# Altium schematic symbol library NPN_B1E2C3.Schlib: 1 symbol
Pins are listed as number, name and electrical type; pins without a type are passive.

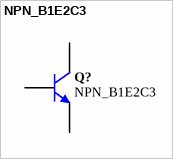
[diagram p0: symbol NPN_B1E2C3]

## NPN_B1E2C3
designator Q?
BC817K-25, 500mW NPN SOT-23 45V 500mA
pins: 1 B, 2 E, 3 C